# Altium footprint library CONN1981584-1.PcbLib: 1 footprints
Each footprint in its own frame and in the unit in brackets; x right, y up, seen from the top. Pads: shape width x height; smd on the part's side, far side on the other; paste and mask are expansions set on the pad; w line width, h text height; cw(c..) or ccw(c..) is an arc to the next point about the centre after c.
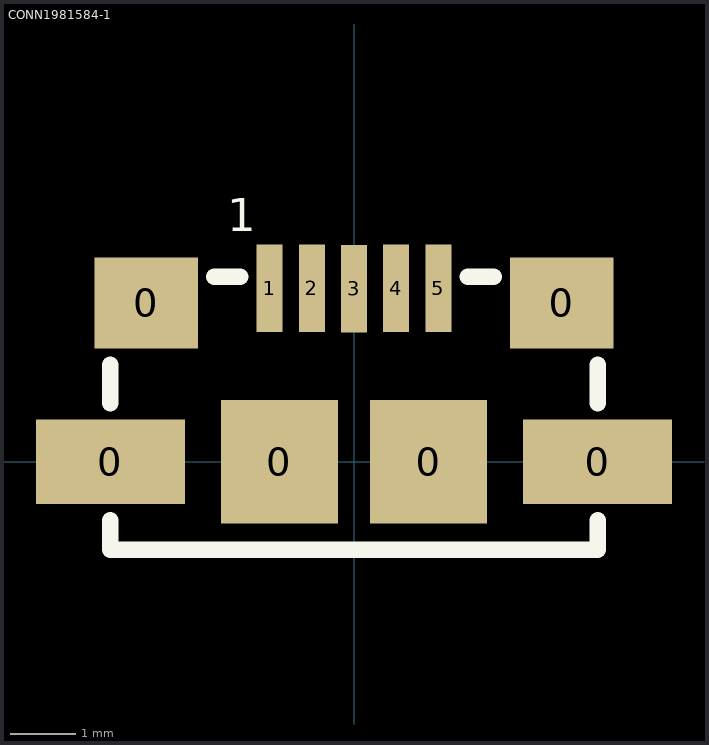
[diagram p0: the footprint, top view; thin cyan lines are the x and y axes]

## CONN1981584-1 [mm]
pads (11):
  rect 2.3x1.3 smd: 0(-3.75,0) 0(3.75,0)
  rect 1.6x1.4 smd: 0(-3.2,2.45) 0(3.2,2.45)
  rect 1.8x1.9 smd: 0(-1.15,0) 0(1.15,0)
  rect 0.4x1.35 smd: 1(-1.3,2.675) 2(-0.65,2.675) 3(0,2.667) 4(0.65,2.675) 5(1.3,2.675)
Top Overlay:
  lines w0.254: -3.75,-0.9 -3.75,-1.35 3.75,-1.35 3.75,-0.9 ; -3.75,0.9 -3.75,1.5 ; -2.15,2.85 -1.75,2.85 ; 1.75,2.85 2.15,2.85 ; 3.75,0.9 3.75,1.5
  text "1" at -1.95,3.55 h0.51
3D body: height 2.8, standoff -0.25, extent -4.4,-2.75 4.4,2.85